# Altium footprint library MAX809SEXR-T.PcbLib: 1 footprints
Each footprint in its own frame and in the unit in brackets; x right, y up, seen from the top. Pads: shape width x height; smd on the part's side, far side on the other; paste and mask are expansions set on the pad; w line width, h text height; cw(c..) or ccw(c..) is an arc to the next point about the centre after c.
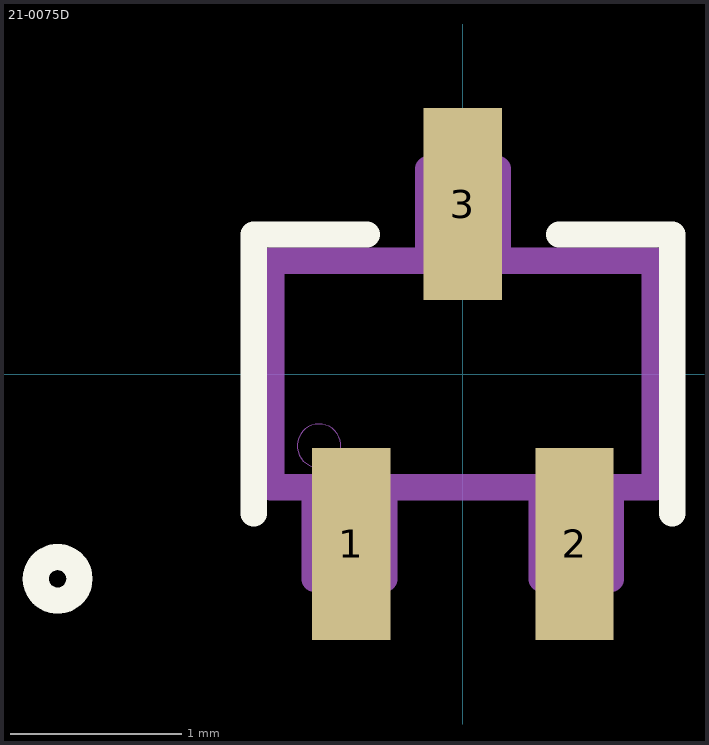
[diagram p0: the footprint, top view; thin cyan lines are the x and y axes]

## 21-0075D [mil]
pads (3):
  rect 18x44 smd paste-1000 mask-1000: 1(-25.59,-39) 2(25.59,-39) 3(0,39)
Top Overlay:
  lines w6: -48,-32 -48,32 -22,32 ; 22,32 48,32 48,-32 ; -98,-47 cw(c-93,-47) -88,-47 cw(c-93,-47) -98,-47
Top Paste:
  region: -9,17 9,17 9,61 -9,61
  region: 16.59,-61 34.59,-61 34.59,-17 16.59,-17
  region: -34.59,-61 -16.59,-61 -16.59,-17 -34.59,-17
Top Solder:
  region: -12.94,13.06 12.94,13.06 12.94,64.94 -12.94,64.94
  region: 12.65,-64.94 38.53,-64.94 38.53,-13.06 12.65,-13.06
  region: -38.53,-64.94 -12.65,-64.94 -12.65,-13.06 -38.53,-13.06
Mechanical 1:
  lines w0: -38,-17.03 cw(c-33,-16.5) -28,-15.97 cw(c-33,-16.5) -38,-17.03
  lines w6: -44,-26 -44,26 44,26 44,-26 -44,-26 ; -34,-47 -18,-47 -18,-26 -34,-26 -34,-47 ; -8,26 -8,47 8,47 8,26 -8,26 ; 18,-47 34,-47 34,-26 18,-26 18,-47